# Altium footprint library OMRON-G2RL-24_V.PcbLib: 1 footprints
Each footprint in its own frame and in the unit in brackets; x right, y up, seen from the top. Pads: shape width x height; smd on the part's side, far side on the other; paste and mask are expansions set on the pad; w line width, h text height; cw(c..) or ccw(c..) is an arc to the next point about the centre after c.
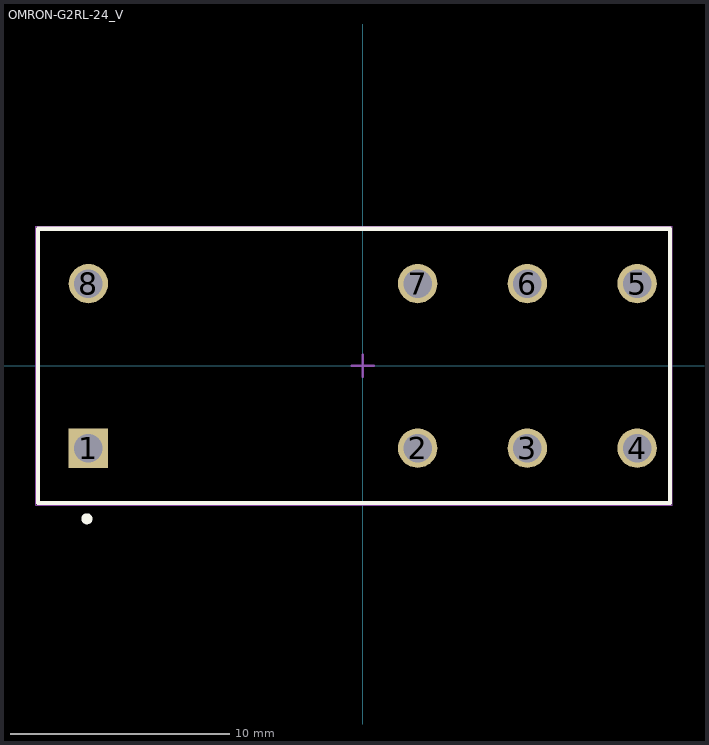
[diagram p0: the footprint, top view; thin cyan lines are the x and y axes]

## OMRON-G2RL-24_V [mm]
pads (8):
  rect 1.8x1.8 hole 1.3: 1(-12.5,-3.75)
  round 1.8 hole 1.3: 2(2.5,-3.75) 3(7.5,-3.75) 4(12.5,-3.75) 5(12.5,3.75) 6(7.5,3.75) 7(2.5,3.75) 8(-12.5,3.75)
Top Overlay:
  circle w0.25: c-12.573,-6.972 r0.125
  lines w0.2: -14.8,-6.25 14,-6.25 14,6.25 -14.8,6.25 -14.8,-6.25
Mechanical 13:
  lines w0.1: -14.8,-6.25 14,-6.25 14,6.25 -14.8,6.25 -14.8,-6.25
Mechanical 15:
  lines w0.05: -14.9,-6.35 14.1,-6.35 14.1,6.35 -14.9,6.35 -14.9,-6.35
  lines w0.1: -0.5,0 0.5,0 ; 0,-0.5 0,0.5
3D body: height 15.7, standoff 0, extent -14.8,-6.25 14,6.25